# Altium footprint library Common Devices.PcbLib: 39 footprints (part 2 of 3)
Each footprint in its own frame and in the unit in brackets; x right, y up, seen from the top. Pads: shape width x height; smd on the part's side, far side on the other; paste and mask are expansions set on the pad; w line width, h text height; cw(c..) or ccw(c..) is an arc to the next point about the centre after c.
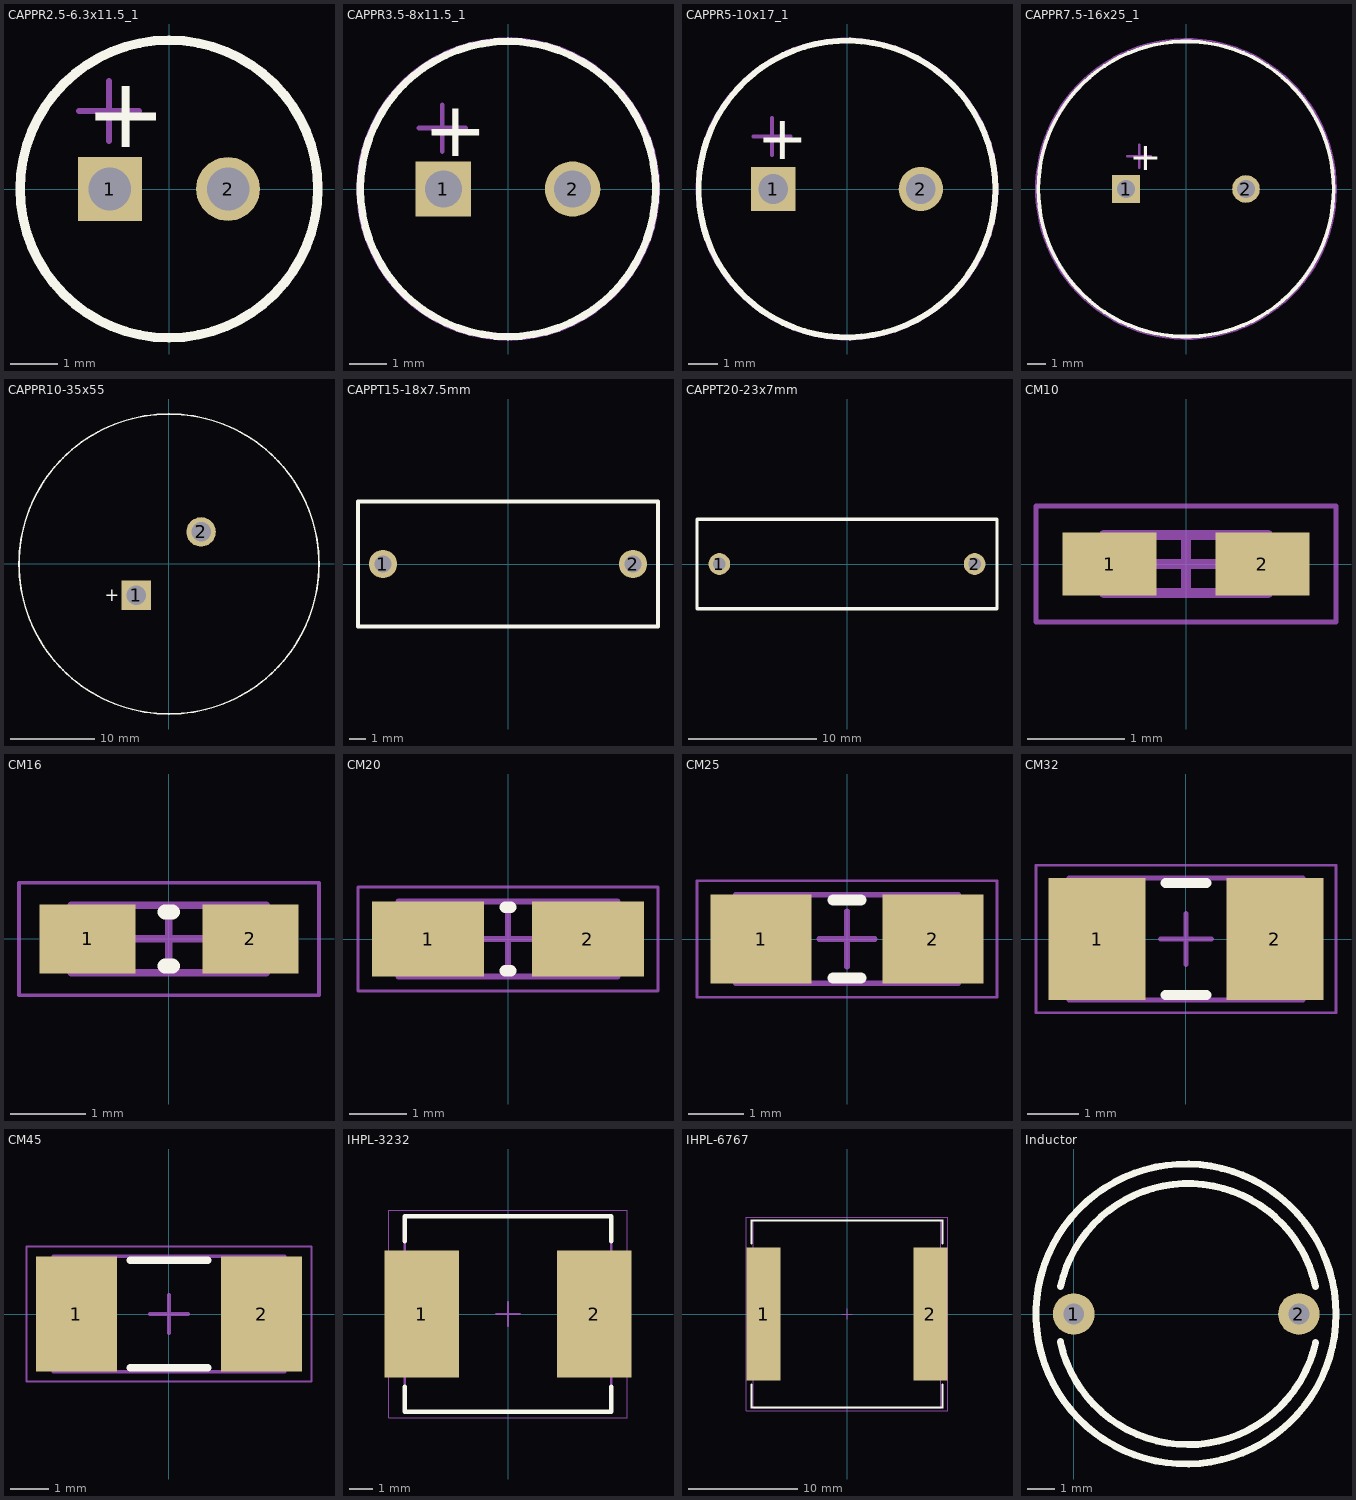
[diagram p1: the footprints below, top view; thin cyan lines are the x and y axes]

## CAPPR2.5-6.3x11.5_1 [mm] "Capacitor, Electrolytic, Radial; Body 6.3 x 11.5 mm (Dia.xH typ); Pin Spacing 2.5 mm (typ)"
height 13
pads (2):
  rect 1.35x1.35 hole 0.9: 1(-1.25,0)
  round 1.35 hole 0.9: 2(1.25,0)
Top Overlay:
  circle w0.2: c0,0 r3.15
  text "+" at -1.778,0.889 h1.5
Mechanical 15:
  circle w0.1: c0,0 r3.175
  lines w0.127: -1.905,1.651 -0.635,1.651 ; -1.27,1.016 -1.27,2.286
3D body "User Library-Cap electro 6_3x12_5x2_5mm.STEP": height 13.03, standoff -3.01, extent -3.175,-3.175 3.176,3.176

## CAPPR3.5-8x11.5_1 [mm] "Capacitor, Electrolytic, Radial; Body 8 x 11.5 mm (Dia.xH typ); Pin Spacing 3.5 mm (typ)"
height 12.5
pads (2):
  rect 1.5x1.5 hole 1: 1(-1.75,0)
  round 1.5 hole 1: 2(1.75,0)
Top Overlay:
  circle w0.2: c0,0 r4
  text "+" at -2.286,0.889 h1.5
Mechanical 15:
  circle w0.1: c0,0 r4.064
  lines w0.127: -2.413,1.651 -1.143,1.651 ; -1.778,1.016 -1.778,2.286
3D body "SW3dPS-Cap electro 8x11.5x3.5mm.STEP": height 12.03, standoff -3.48, extent -4.025,-4.025 4.026,4.026

## CAPPR5-10x17_1 [mm] "Capacitor, Electrolytic, Radial; Body 10 x 17 mm (Dia.xH typ); Pin Spacing 5 mm (typ)"
height 17
pads (2):
  rect 1.5x1.5 hole 1: 1(-2.5,0)
  round 1.5 hole 1: 2(2.5,0)
Top Overlay:
  circle w0.2: c0,0 r5.025
  text "+" at -3.048,1.016 h1.5
Mechanical 15:
  circle w0.1: c0,0 r5.08
  lines w0.127: -3.175,1.778 -1.905,1.778 ; -2.54,1.143 -2.54,2.413
3D body "SW3dPS-Cap electro 10x12.5x5.0mm.STEP": height 13.03, standoff -3.48, extent -5.025,-5.001 5.026,5.05

## CAPPR7.5-16x25_1 [mm] "Capacitor, Electrolytic, Radial; Body 16 x 25 mm (Dia.xH typ); Pin Spacing 7.5 mm (typ)"
height 25
pads (2):
  rect 1.5x1.5 hole 1: 1(-3.25,0)
  round 1.5 hole 1: 2(3.25,0)
Top Overlay:
  circle w0.2: c0,0 r8
  text "+" at -3.048,1.016 h1.5
Mechanical 15:
  circle w0.1: c0,0 r8.128
  lines w0.127: -3.175,1.778 -1.905,1.778 ; -2.54,1.143 -2.54,2.413

## CAPPR10-35x55 [mm] "Aluminium Electrolytic capacitor"
height 55
pads (2):
  rect 3.5x3.5 hole 2.3: 1(-3.85,-3.75)
  round 3.5 hole 2.3: 2(3.85,3.75)
Top Overlay:
  circle w0.2: c0.05,-0.05 r17.78
  text "+" at -7.55,-4.45 h1.5
3D body "SW3dPS-Capacitor_SnapIn_35x50mm.STEP": height 51.56, standoff -4.62, extent -17.73,-17.83 17.83,17.73

## CAPPT15-18x7.5mm [mm] "Film capasitor"
height 15
pads (2):
  round 1.7 hole 1: 1(-7.5,0) 2(7.5,0)
Top Overlay:
  lines w0.254: -9,-3.75 9,-3.75 9,3.75 -9,3.75 -9,-3.75

## CAPPT20-23x7mm [mm] "Film capasitor"
height 13.5
pads (2):
  round 1.7 hole 1: 1(-10,0) 2(10,0)
Top Overlay:
  lines w0.254: -11.75,-3.5 11.75,-3.5 11.75,3.5 -11.75,3.5 -11.75,-3.5

## CM10 [mm]
height 0.55
pads (2):
  rect 0.97x0.65 smd: 1(-0.79,0) 2(0.79,0)
Mechanical 13:
  lines w0.1: -0.85,-0.3 -0.85,0.3 0.85,0.3 0.85,-0.3 -0.85,-0.3
Mechanical 15:
  lines w0.05: -1.55,-0.6 -1.55,0.6 1.55,0.6 1.55,-0.6 -1.55,-0.6
  lines w0.1: -0.3,0 0.3,0 ; 0,-0.3 0,0.3
3D body: height 0.55, standoff 0, extent -0.32,-0.3 0.32,0.3
3D body: height 0.55, standoff 0, extent -0.85,-0.3 -0.32,0.3
3D body: height 0.55, standoff 0, extent 0.32,-0.3 0.85,0.3

## CM16 [mm]
height 0.55
pads (2):
  rect 1.28x0.92 smd: 1(-1.085,0) 2(1.085,0)
Top Overlay:
  lines w0.2: -0.05,-0.36 0.05,-0.36 ; -0.05,0.36 0.05,0.36
Mechanical 13:
  lines w0.1: -1.3,-0.45 1.3,-0.45 1.3,0.45 -1.3,0.45 -1.3,-0.45
Mechanical 15:
  lines w0.05: -2,-0.75 2,-0.75 2,0.75 -2,0.75 -2,-0.75
  lines w0.1: -0.45,0 0.45,0 ; 0,-0.45 0,0.45
3D body: height 0.55, standoff 0, extent 0.67,-0.45 1.3,0.45
3D body: height 0.55, standoff 0, extent -1.3,-0.45 -0.67,0.45
3D body: height 0.55, standoff 0, extent -0.67,-0.45 0.67,0.45

## CM20 [mm]
height 0.55
pads (2):
  rect 1.94x1.3 smd: 1(-1.385,0) 2(1.385,0)
Top Overlay:
  lines w0.2: -0.05,-0.55 0.05,-0.55 ; -0.05,0.55 0.05,0.55
Mechanical 13:
  lines w0.1: -1.9,-0.65 1.9,-0.65 1.9,0.65 -1.9,0.65 -1.9,-0.65
Mechanical 15:
  lines w0.05: -2.6,-0.9 2.6,-0.9 2.6,0.9 -2.6,0.9 -2.6,-0.9
  lines w0.1: -0.5,0 0.5,0 ; 0,-0.5 0,0.5
3D body: height 0.55, standoff 0, extent 0.75,-0.65 1.9,0.65
3D body: height 0.55, standoff 0, extent -1.9,-0.65 -0.75,0.65
3D body: height 0.55, standoff 0, extent -0.75,-0.65 0.75,0.65

## CM25 [mm]
height 0.55
pads (2):
  rect 1.82x1.6 smd: 1(-1.545,0) 2(1.545,0)
Top Overlay:
  lines w0.2: -0.25,-0.7 0.25,-0.7 ; -0.25,0.7 0.25,0.7
Mechanical 13:
  lines w0.1: -2,-0.8 -2,0.8 2,0.8 2,-0.8 -2,-0.8
Mechanical 15:
  lines w0.05: -2.7,-1.05 -2.7,1.05 2.7,1.05 2.7,-1.05 -2.7,-1.05
  lines w0.1: -0.5,0 0.5,0 ; 0,-0.5 0,0.5
3D body: height 0.55, standoff 0, extent -0.85,-0.8 0.85,0.8
3D body: height 0.55, standoff 0, extent -2,-0.8 -0.85,0.8
3D body: height 0.55, standoff 0, extent 0.85,-0.8 2,0.8

## CM32 [mm]
height 0.55
pads (2):
  rect 1.9x2.4 smd: 1(-1.75,0) 2(1.75,0)
Top Overlay:
  lines w0.2: -0.4,-1.1 0.4,-1.1 ; -0.4,1.1 0.4,1.1
Mechanical 13:
  lines w0.1: -2.3,-1.2 2.3,-1.2 2.3,1.2 -2.3,1.2 -2.3,-1.2
Mechanical 15:
  lines w0.05: -2.95,-1.45 2.95,-1.45 2.95,1.45 -2.95,1.45 -2.95,-1.45
  lines w0.1: -0.5,0 0.5,0 ; 0,-0.5 0,0.5
3D body: height 0.55, standoff 0, extent 1.05,-1.2 2.3,1.2
3D body: height 0.55, standoff 0, extent -2.3,-1.2 -1.05,1.2
3D body: height 0.55, standoff 0, extent -1.05,-1.2 1.05,1.2

## CM45 [mm]
height 0.55
pads (2):
  rect 2.1x2.99 smd: 1(-2.405,0) 2(2.405,0)
Top Overlay:
  lines w0.2: -1,-1.395 1,-1.395 ; -1,1.395 1,1.395
Mechanical 13:
  lines w0.1: -3,-1.5 3,-1.5 3,1.5 -3,1.5 -3,-1.5
Mechanical 15:
  lines w0.05: -3.7,-1.75 3.7,-1.75 3.7,1.75 -3.7,1.75 -3.7,-1.75
  lines w0.1: -0.5,0 0.5,0 ; 0,-0.5 0,0.5
3D body: height 0.55, standoff 0, extent 1.37,-1.5 3,1.5
3D body: height 0.55, standoff 0, extent -3,-1.5 -1.37,1.5
3D body: height 0.55, standoff 0, extent -1.37,-1.5 1.37,1.5

## IHPL-3232 [mm] "Low Profile, High Current IHPL Inductor"
height 4
pads (2):
  rect 3.125x5.334 smd: 1(-3.613,0) 2(3.613,0)
Top Overlay:
  lines w0.2: -4.318,-3.048 -4.318,-4.088 -4.32,-4.09 4.32,-4.09 4.32,-3.05 4.318,-3.048 ; -4.318,3.048 -4.318,4.088 -4.32,4.09 4.32,4.09 4.318,4.088 4.318,3.048
Mechanical 13:
  lines w0.1: -4.32,-4.09 4.32,-4.09 4.32,4.09 -4.32,4.09 -4.32,-4.09
Mechanical 15:
  lines w0.05: -5,-4.35 5,-4.35 5,4.35 -5,4.35 -5,-4.35
  lines w0.1: -0.5,0 0.5,0 ; 0,-0.5 0,0.5
3D body "IHPL-3232.step": height 4, standoff 0, extent -4.32,-4.09 4.32,4.09

## IHPL-6767 [mm] "Chip Inductor, 2-Leads, Body 17.15x17.15mm"
height 7
pads (2):
  rect 3.125x12.19 smd: 1(-7.648,0) 2(7.648,0)
Top Overlay:
  lines w0.2: -8.763,-6.477 -8.763,-8.562 -8.75,-8.575 8.75,-8.575 8.763,-8.562 8.763,-6.477 ; -8.763,6.477 -8.763,8.562 -8.75,8.575 8.75,8.575 8.763,8.562 8.763,6.477
Mechanical 13:
  lines w0.1: -8.575,-8.575 -8.575,8.575 8.575,8.575 8.575,-8.575 -8.575,-8.575
Mechanical 15:
  lines w0.05: -9.25,-8.85 -9.25,8.85 9.25,8.85 9.25,-8.85 -9.25,-8.85
  lines w0.1: -0.5,0 0.5,0 ; 0,-0.5 0,0.5
3D body "IHPL-6767.step": height 7, standoff 0, extent -8.575,-8.575 8.575,8.575

## Inductor [mil]
pads (2):
  round 60 hole 30: 1(0,0) 2(325,0)
Top Overlay:
  circle w10: c162,0 r216.54
  lines w10: -19.42,-39.87 ccw(c165,0) 349.19,-40.93 ; -19.03,39.79 cw(c165,0) 349.03,39.79